# Altium footprint library przem_lib.PcbLib: 4 footprints
Each footprint in its own frame and in the unit in brackets; x right, y up, seen from the top. Pads: shape width x height; smd on the part's side, far side on the other; paste and mask are expansions set on the pad; w line width, h text height; cw(c..) or ccw(c..) is an arc to the next point about the centre after c.
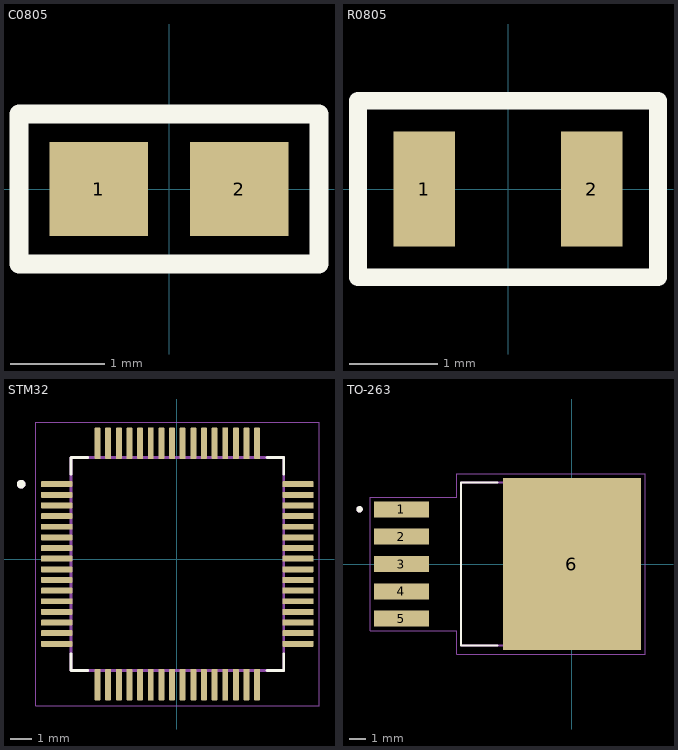
[diagram p0: the footprints below, top view; thin cyan lines are the x and y axes]

## C0805 [mm]
pads (2):
  rect 1.05x1 smd: 1(-0.75,0) 2(0.75,0)
Top Overlay:
  lines w0.2: -1.6,-0.8 1.6,-0.8 1.6,0.8 -1.6,0.8 -1.6,-0.8
3D body "CAPACITOR0805.step": height 0.6, standoff 0, extent -1,-0.625 1,0.625

## R0805 [mm]
pads (2):
  rect 0.7x1.3 smd: 1(-0.95,0) 2(0.95,0)
Top Overlay:
  lines w0.2: -1.7,-1 -1.7,1 1.7,1 1.7,-1 -1.7,-1
3D body "User Library-CR2012-0805.STEP": height 0.6, standoff 0, extent -1,-0.625 1,0.625

## STM32 [mm]
pads (64):
  rrect25% 1.47x0.28 smd: 1(-5.638,3.519) 2(-5.638,3.019) 3(-5.638,2.519) 4(-5.638,2.019) 5(-5.638,1.519) 6(-5.638,1.019) 7(-5.638,0.519) 8(-5.638,0.019) 9(-5.638,-0.481) 10(-5.638,-0.981) 11(-5.638,-1.481) 12(-5.638,-1.981) 13(-5.638,-2.481) 14(-5.638,-2.981) 15(-5.638,-3.481) 16(-5.638,-3.981) 33(5.702,-3.981) 34(5.702,-3.481) 35(5.702,-2.981) 36(5.702,-2.481) 37(5.702,-1.981) 38(5.702,-1.481) 39(5.702,-0.981) 40(5.702,-0.481) 41(5.702,0.019) 42(5.702,0.519) 43(5.702,1.019) 44(5.702,1.519) 45(5.702,2.019) 46(5.702,2.519) 47(5.702,3.019) 48(5.702,3.519)
  rrect25% 0.28x1.47 smd: 17(-3.718,-5.901) 18(-3.218,-5.901) 19(-2.718,-5.901) 20(-2.218,-5.901) 21(-1.718,-5.901) 22(-1.218,-5.901) 23(-0.718,-5.901) 24(-0.218,-5.901) 25(0.282,-5.901) 26(0.782,-5.901) 27(1.282,-5.901) 28(1.782,-5.901) 29(2.282,-5.901) 30(2.782,-5.901) 31(3.282,-5.901) 32(3.782,-5.901) 49(3.782,5.439) 50(3.282,5.439) 51(2.782,5.439) 52(2.282,5.439) 53(1.782,5.439) 54(1.282,5.439) 55(0.782,5.439) 56(0.282,5.439) 57(-0.218,5.439) 58(-0.718,5.439) 59(-1.218,5.439) 60(-1.718,5.439) 61(-2.218,5.439) 62(-2.718,5.439) 63(-3.218,5.439) 64(-3.718,5.439)
Top Overlay:
  circle w0.2: c-7.308,3.519 r0.1
  lines w0.127: -4.968,-4.441 -4.968,-5.231 -4.178,-5.231 ; -4.968,3.979 -4.968,4.769 -4.178,4.769 ; 4.242,-5.231 5.032,-5.231 5.032,-4.441 ; 4.242,4.769 5.032,4.769 5.032,3.979
Mechanical 13:
  circle w0.2: c-7.308,3.519 r0.1
  lines w0.127: -4.968,-5.231 5.032,-5.231 5.032,4.769 -4.968,4.769 -4.968,-5.231
Mechanical 15:
  lines w0.05: -6.623,-6.886 6.687,-6.886 6.687,6.424 -6.623,6.424 -6.623,-6.886

## TO-263 [mm]
pads (6):
  rect 3.4x1 smd paste-3 mask+0: 1(-10.6,3.4) 2(-10.6,1.7) 3(-10.6,0) 4(-10.6,-1.7) 5(-10.6,-3.4)
  rect 8.6x10.7 smd paste-6 mask+0: 6(0,0)
Top Overlay:
  circle w0.2: c-13.2,3.4 r0.1
  lines w0.127: -4.62,-5.08 -6.905,-5.08 -6.905,5.08 -4.62,5.08
Top Paste:
  region: -8.95,-3.85 -12.25,-3.85 -12.25,-2.95 -8.95,-2.95
  region: -8.95,-2.15 -12.25,-2.15 -12.25,-1.25 -8.95,-1.25
  region: -8.95,2.95 -12.25,2.95 -12.25,3.85 -8.95,3.85
  region: -8.95,1.25 -12.25,1.25 -12.25,2.15 -8.95,2.15
  region: -8.95,-0.45 -12.25,-0.45 -12.25,0.45 -8.95,0.45
  region: 4.25,-5.3 -4.25,-5.3 -4.25,5.3 4.25,5.3
Top Solder:
  region: -8.83,-3.97 -12.37,-3.97 -12.37,-2.83 -8.83,-2.83
  region: -8.83,-2.27 -12.37,-2.27 -12.37,-1.13 -8.83,-1.13
  region: -8.83,2.83 -12.37,2.83 -12.37,3.97 -8.83,3.97
  region: -8.83,1.13 -12.37,1.13 -12.37,2.27 -8.83,2.27
  region: -8.83,-0.57 -12.37,-0.57 -12.37,0.57 -8.83,0.57
  region: 4.37,-5.42 -4.37,-5.42 -4.37,5.42 4.37,5.42
Mechanical 13:
  circle w0.2: c-13.2,3.4 r0.1
  lines w0.127: -6.905,-5.08 2.02,-5.08 2.02,5.08 -6.905,5.08 -6.905,-5.08
Mechanical 15:
  lines w0.05: -12.55,-4.15 -12.55,4.15 -7.155,4.15 -7.155,5.6 4.55,5.6 4.55,-5.6 -7.155,-5.6 -7.155,-4.15 -12.55,-4.15